# EAGLE library part MAX4651 (library mullac)
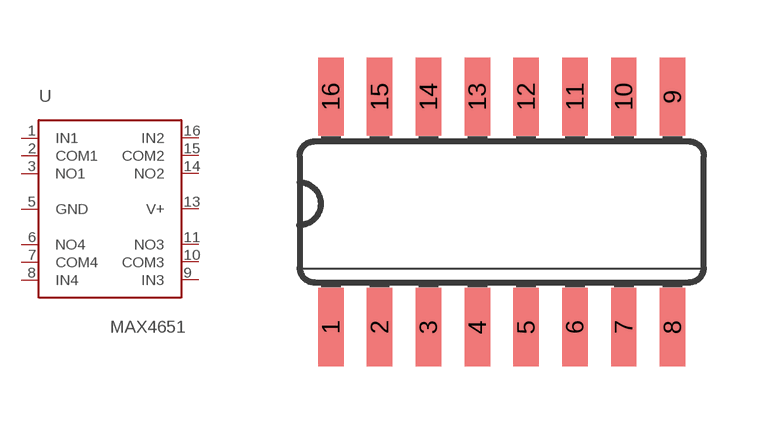
[diagram p21: symbol with the pads of SO16L; footprint SO16L]

Designator prefix -

## MAX4651SO16  [SO16L]
1  IN1
2  COM1
3  NO1
5  GND
6  NO4
7  COM4
8  IN4
9  IN3
10  COM3
11  NO3
13  V+
14  NO2
15  COM2
16  IN2

## Footprint SO16L (pad centres in mm)
Small Outline Package .300 SIOC Source: http://www.maxim-ic.com/cgi-bin/packages?pkg=16%2FSOIC%2E300&Type=Max
smd 0.66 x 2.032: 1 -4.445,-3.007; 2 -3.175,-3.007; 3 -1.905,-3.007; 4 -0.635,-3.007; 5 0.635,-3.007; 6 1.905,-3.007; 7 3.175,-3.007; 8 4.445,-3.007; 9 4.445,2.997; 10 3.175,2.997; 11 1.905,2.997; 12 0.635,2.997; 13 -0.635,2.997; 14 -1.905,2.997; 15 -3.175,2.997; 16 -4.445,2.997